# Altium schematic symbol library mySchlib.SchLib: 63 symbols
Pins are listed as number, name and electrical type; pins without a type are passive.

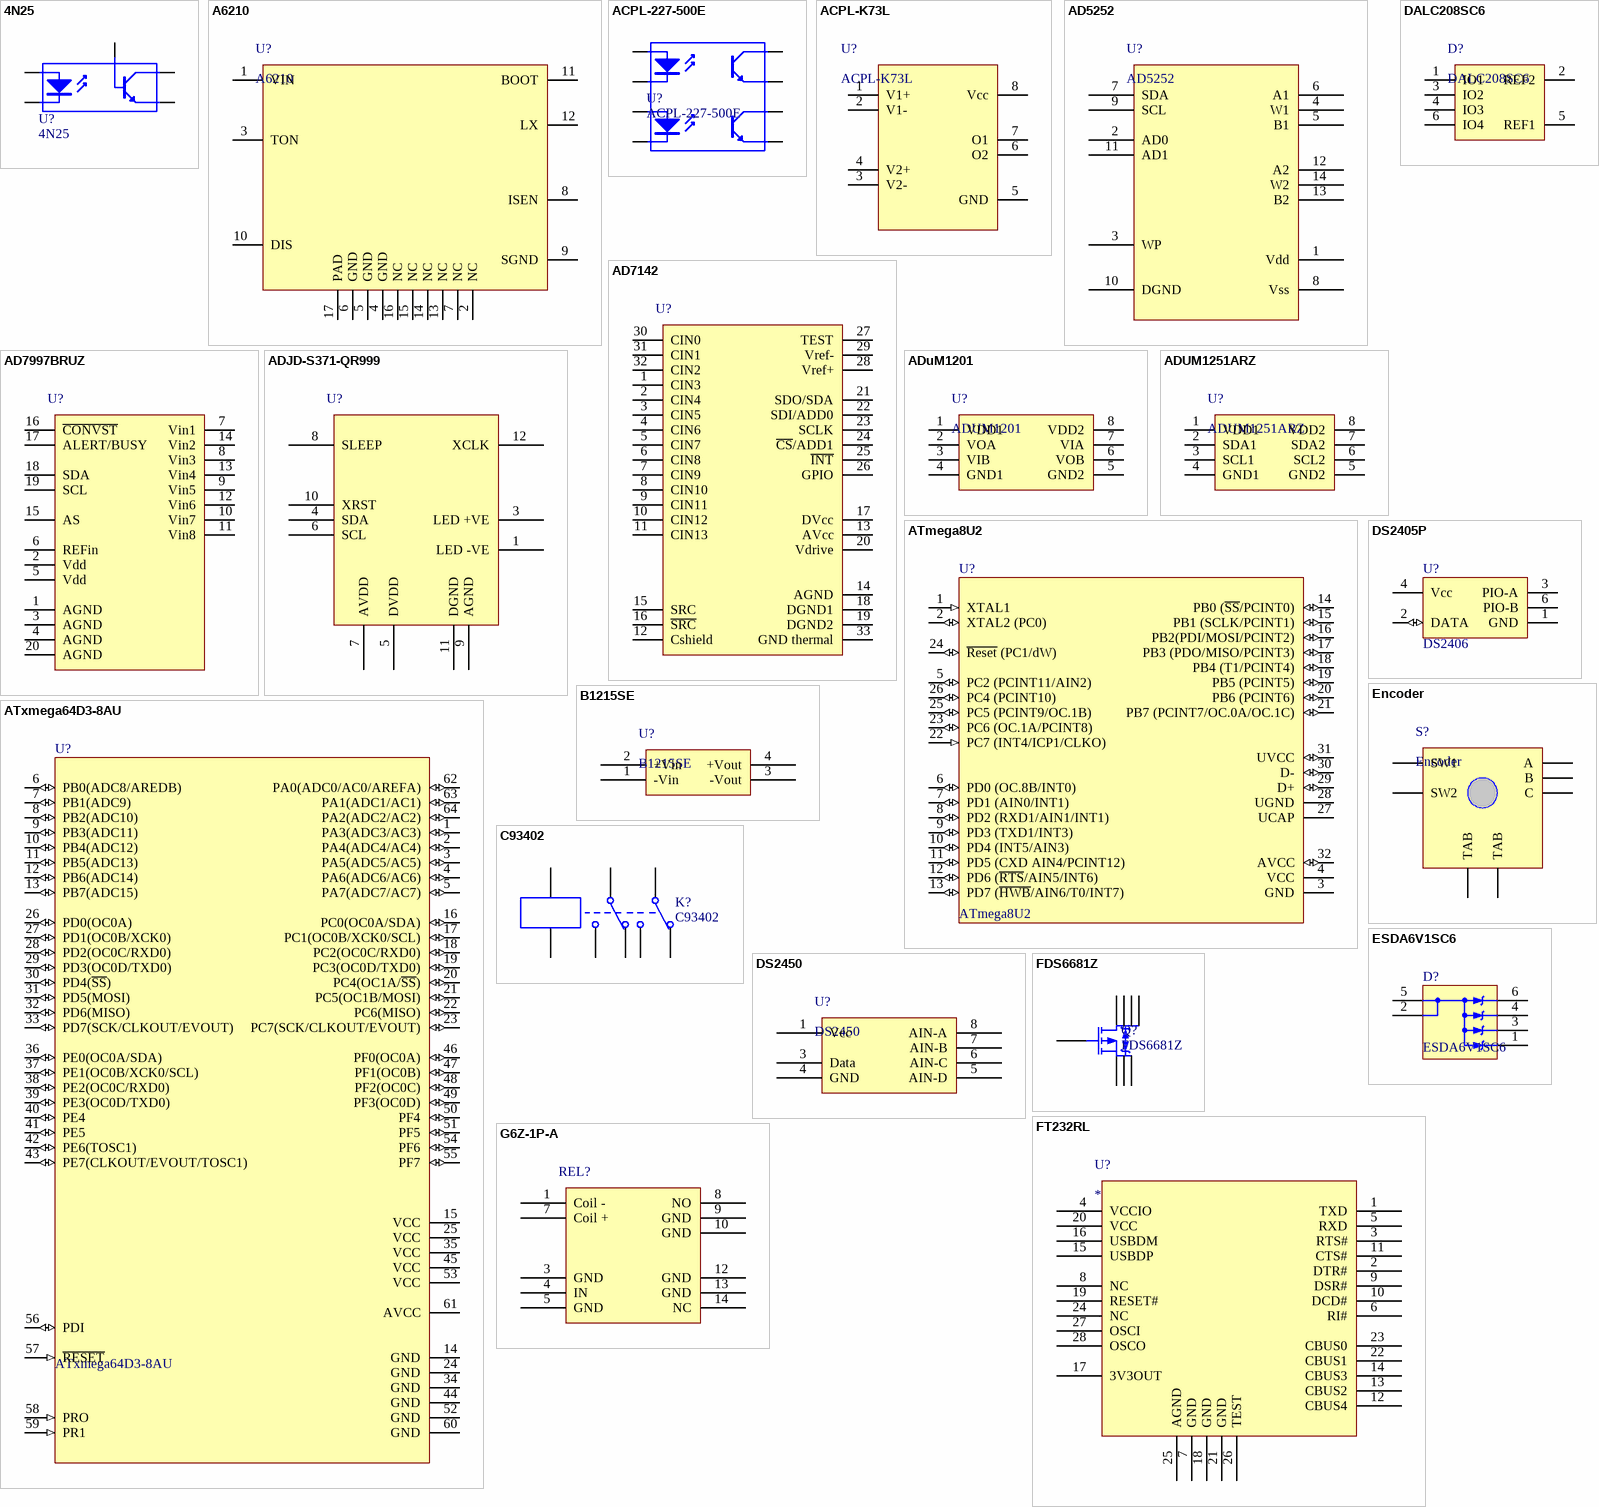
[diagram p0: symbols 4N25 to G6Z-1P-A]

## 4N25
designator U?
5 Pin Mini Flat Pack Optocoupler; Published: 24-Mar-1999; LatestRevisionDate: 04-Mar-2005; LatestRevisionNote: PCB Footprint replaced, Sch pins re-numbered.; DatasheetDocument: Apr-2004; PackageReference: SOP5(6); Publisher: Altium Limited
simulation model OPTOISO (Spice Subcircuit)
footprint SOP6 - SMD
pins: 1 A "Anode", 2 K "Cathode", 4 E "Emitter", 5 C "Collector", 6 B "Base"

## A6210
designator U?
3 A, 2 MHz Buck-Regulating LED Driver
footprint QFN65P400X400-16W2N (QFN, 16-Leads, Body 4x4 mm, Pitch 0.65mm, IPC Medium Density)
pins: 1 VIN, 2 NC, 3 TON, 4 GND, 5 GND, 6 GND, 7 NC, 8 ISEN, 9 SGND, 10 DIS, 11 BOOT, 12 LX, 13 NC, 14 NC, 15 NC, 16 NC, 17 PAD

## ACPL-227-500E
designator U?
Optocoupler; Published: 24-Mar-1999; LatestRevisionDate: 04-Mar-2005; LatestRevisionNote: PCB Footprint replaced, Sch pins re-numbered.; DatasheetDocument: Apr-2004; PackageReference: SOP5(6); Publisher: Altium Limited
simulation model OPTOISO (Spice Subcircuit)
footprint SOIC8_L (Footprint not found)
pins: 1 A "Anode", 2 K "Cathode", 3 A "Anode", 4 K "Cathode", 5 E "Emitter", 6 C "Collector", 7 E "Emitter", 8 C "Collector"

## ACPL-K73L
designator U?
Optocoupler
footprint TSSOP8-opto (TSOP, 8-Leads, Body 3,1x4,5mm (max), Pitch 0,65mm, IPC Medium Density)
pins: 1 V1+, 2 V1-, 3 V2-, 4 V2+, 5 GND, 6 O2, 7 O1, 8 Vcc

## AD5252
designator U?
Digital potentiometer
footprint TSSOP14 (Shrink Small Outline; 14 Leads; Body Width 4.4 mm; Pitch 0.65 mm)
pins: 1 Vdd, 2 AD0, 3 WP, 4 W1, 5 B1, 6 A1, 7 SDA, 8 Vss, 9 SCL, 10 DGND, 11 AD1, 12 A2, 13 B2, 14 W2

## AD7142
designator U?  (value not drawn)
Programmable Controller for Capacitance Touch Sensors
footprint LFCSP-32 (QFN, 32-Leads, Body 4,8x5,0mm (max), Pitch 0,50mm, IPC Medium Density)
pins: 1 CIN3, 2 CIN4, 3 CIN5, 4 CIN6, 5 CIN7, 6 CIN8, 7 CIN9, 8 CIN10, 9 CIN11, 10 CIN12, 11 CIN13, 12 Cshield, 13 AVcc, 14 AGND, 15 SRC, 16 ~{SRC}, 17 DVcc, 18 DGND1, 19 DGND2, 20 Vdrive, 21 SDO/SDA, 22 SDI/ADD0, 23 SCLK, 24 ~{CS}/ADD1, 25 ~{INT}, 26 GPIO, 27 TEST, 28 Vref+, 29 Vref-, 30 CIN0, 31 CIN1, 32 CIN2, 33 GND thermal

## AD7997BRUZ
designator U?  (value not drawn)
footprint TSOP65P640X120-20N (TSOP, 20-Leads, Body 6,6x4,5mm (max), Pitch 0,65mm, IPC Medium Density)
pins: 1 AGND, 2 Vdd, 3 AGND, 4 AGND, 5 Vdd, 6 REFin, 7 Vin1, 8 Vin3, 9 Vin5, 10 Vin7, 11 Vin8, 12 Vin6, 13 Vin4, 14 Vin2, 15 AS, 16 ~{CONVST}, 17 ALERT/BUSY, 18 SDA, 19 SCL, 20 AGND

## ADJD-S371-QR999
designator U?  (value not drawn)
footprint ADJD-S371-QR999 (Miniature Surface-Mount RGB Digital Color Sensor Module)
pins: 1 LED -VE, 3 LED +VE, 4 SDA, 5 DVDD, 6 SCL, 7 AVDD, 8 SLEEP, 9 AGND, 10 XRST, 11 DGND, 12 XCLK

## ADuM1201
designator U?, comment ADUM1201
footprint SOIC8_L (Footprint not found)
pins: 1 VDD1, 2 VOA, 3 VIB, 4 GND1, 5 GND2, 6 VOB, 7 VIA, 8 VDD2

## ADUM1251ARZ
designator U?
ANALOG DEVICES - ADUM1251ARZ - ISOLATOR, DUAL I2C, SMD, SOIC8
footprint SOIC8_L (8-Pin Small Outline Integrated Circuit Package (SOIC8), IPC High Density)
pins: 1 VDD1, 2 SDA1, 3 SCL1, 4 GND1, 5 GND2, 6 SCL2, 7 SDA2, 8 VDD2

## ATmega8U2
designator U?
8-Bit AVR Microcontroller with 8K Bytes of In-System Programmable Flash Memory; Published: 17-Sep-2003; LatestRevisionDate: 13-Apr-2006; LatestRevisionNote: IPC-7351 Footprint Added.; DatasheetVersion: 2486H-AVR-09/02; PackageVersion: revB, Oct-2001; PackageReference: 32A; Publisher: Altium Limited; PackageDescription: 32-Pin Thin Quad Flat Pack 0.8 mm Pitch; Code_JEDEC: MS-026-ABA; ComponentLink1Description: Manufacturer Link; ComponentLink1URL: http://www.atmel.com; ComponentLink2Description: Datasheet; ComponentLink2URL: http://www.atmel.com/dyn/resources/prod_documents/doc2486.pdf
footprint 32A_N (Thin QFP, 32-Leads, Body 7x7mm, Pitch 0.8mm, IPC Medium Density)
footprint 32A_L (Thin QFP, 32-Leads, Body 7x7mm, Pitch 0.8mm, IPC High Density)
footprint 32A_M (Thin QFP, 32-Leads, Body 7x7mm, Pitch 0.8mm, IPC Low Density)
3D model ATMEGA8L-32A (32-Pin Thin Quad Flat Pack 0.8 mm Pitch)
pins: 1 XTAL1 (in), 2 XTAL2 (PC0) (io), 3 GND (power), 4 VCC (power), 5 PC2 (PCINT11/AIN2) (io), 6 PD0 (OC.8B/INT0) (io), 7 PD1 (AIN0/INT1) (io), 8 PD2 (RXD1/AIN1/INT1) (io), 9 PD3 (TXD1/INT3) (io), 10 PD4 (INT5/AIN3) (io), 11 PD5 (CXD AIN4/PCINT12) (io), 12 PD6 (~{RTS}/AIN5/INT6) (io), 13 PD7 (~{HWB}/AIN6/T0/INT7) (io), 14 PB0 (~{SS}/PCINT0) (io), 15 PB1 (SCLK/PCINT1) (io), 16 PB2(PDI/MOSI/PCINT2) (io), 17 PB3 (PDO/MISO/PCINT3) (io), 18 PB4 (T1/PCINT4) (io), 19 PB5 (PCINT5) (io), 20 PB6 (PCINT6) (io), 21 PB7 (PCINT7/OC.0A/OC.1C) (io), 22 PC7 (INT4/ICP1/CLKO) (in), 23 PC6 (OC.1A/PCINT8) (io), 24 ~{Reset} (PC1/dW) (io), 25 PC5 (PCINT9/OC.1B) (io), 26 PC4 (PCINT10) (io), 27 UCAP (power), 28 UGND (power), 29 D+ (io), 30 D- (io), 31 UVCC (io), 32 AVCC (io)

## ATxmega64D3-8AU
designator U?
8-Bit AVR Microcontroller with 64K Bytes of In-System Programmable Flash Memory; Published: 17-Sep-2003; LatestRevisionDate: 13-Apr-2006; LatestRevisionNote: IPC-7351 Footprint Added.; DatasheetVersion: 2490C-AVR-009/02; PackageVersion: revB, Oct-2001; PackageReference: 64A; Publisher: Altium Limited; PackageDescription: 64-Pin Thin Quad Flat Pack 0.8 mm Pitch; Code_JEDEC: MS-026-AEB; ComponentLink1Description: Manufacturer Link; ComponentLink1URL: http://www.atmel.com; ComponentLink2Description: Datasheet; ComponentLink2URL: http://www.atmel.com/dyn/resources/prod_documents/doc2490.pdf
footprint 64A_N (Thin QFP, 64-Leads, Body 14x14mm, Pitch 0.8mm, IPC Medium Density)
footprint 64A_L (Thin QFP, 64-Leads, Body 14x14mm, Pitch 0.8mm, IPC High Density)
footprint 64A_M (Thin QFP, 64-Leads, Body 14x14mm, Pitch 0.8mm, IPC Low Density)
3D model ATMEGA64L-64A (64-Pin Thin Quad Flat Pack 0.8 mm Pitch)
pins: 1 PA3(ADC3/AC3) (io), 2 PA4(ADC4/AC4) (io), 3 PA5(ADC5/AC5) (io), 4 PA6(ADC6/AC6) (io), 5 PA7(ADC7/AC7) (io), 6 PB0(ADC8/AREDB) (io), 7 PB1(ADC9) (io), 8 PB2(ADC10) (io), 9 PB3(ADC11) (io), 10 PB4(ADC12) (io), 11 PB5(ADC13) (io), 12 PB6(ADC14) (io), 13 PB7(ADC15) (io), 14 GND, 15 VCC, 16 PC0(OC0A/SDA) (io), 17 PC1(OC0B/XCK0/SCL) (io), 18 PC2(OC0C/RXD0) (io), 19 PC3(OC0D/TXD0) (io), 20 PC4(OC1A/~{SS}) (io), 21 PC5(OC1B/MOSI) (io), 22 PC6(MISO) (io), 23 PC7(SCK/CLKOUT/EVOUT) (io), 24 GND, 25 VCC, 26 PD0(OC0A) (io), 27 PD1(OC0B/XCK0) (io), 28 PD2(OC0C/RXD0) (io), 29 PD3(OC0D/TXD0) (io), 30 PD4(~{SS}) (io), 31 PD5(MOSI) (io), 32 PD6(MISO) (io), 33 PD7(SCK/CLKOUT/EVOUT) (io), 34 GND, 35 VCC, 36 PE0(OC0A/SDA) (io), 37 PE1(OC0B/XCK0/SCL) (io), 38 PE2(OC0C/RXD0) (io), 39 PE3(OC0D/TXD0) (io), 40 PE4 (io), 41 PE5 (io), 42 PE6(TOSC1) (io), 43 PE7(CLKOUT/EVOUT/TOSC1) (io), 44 GND, 45 VCC, 46 PF0(OC0A) (io), 47 PF1(OC0B) (io), 48 PF2(OC0C) (io), 49 PF3(OC0D) (io), 50 PF4 (io), 51 PF5 (io), 52 GND, 53 VCC, 54 PF6 (io), 55 PF7 (io), 56 PDI (io), 57 ~{RESET} (in), 58 PRO (in), 59 PR1 (in), 60 GND, 61 AVCC, 62 PA0(ADC0/AC0/AREFA) (io), 63 PA1(ADC1/AC1) (io), 64 PA2(ADC2/AC2) (io)

## B1215SE
designator U?
DC/DC CONVERTER, 0.2W 12V
footprint DC/DC Converter (CONVERTER, DC/DC)
pins: 1 -Vin, 2 +Vin, 3 -Vout, 4 +Vout

## C93402
designator K?
Published: 24-Mar-1999; LatestRevisionDate: 17-Jul-2002; LatestRevisionNote: Re-released for DXP Platform.; PackageReference: DIP-P8; Publisher: Altium Limited
simulation model DPDTRELAY (Spice Subcircuit)
footprint C93402
pins: 1, 4, 6, 8, 9, 11, 13, 16

## DALC208SC6
designator D?
STMICROELECTRONICS - DALC208SC6 - DIODE ARRAY, TVS, 9V, SMD, SOT23-6L
footprint SOT23-6 (SOT-457/SC-74; 6 Leads; Body 3 x 3 mm, inc. leads (LxW max))
pins: 1 IO1, 2 REF2, 3 IO2, 4 IO3, 5 REF1, 6 IO4

## DS2405P
designator U?, comment DS2406
Addressable Switch; Note: Pin numbers 4-6 are Not Connected (NC); Published: 13-Oct-2000; LatestRevisionDate: 17-Jul-2002; LatestRevisionNote: Re-released for DXP Platform.; DatasheetVersion: 22-Oct-1999; PackageVersion: 1999; PackageReference: TSOC6; Publisher: Altium Limited; PackageDescription: Small Outline; 6 C-Bend Leads; Body Width 3.8 mm; Pitch 1.27 mm; ComponentLink1Description: Manufacturer Link; ComponentLink1URL: http://www.maxim-ic.com/; ComponentLink2Description: Datasheet; ComponentLink2URL: http://pdfserv.maxim-ic.com/en/ds/DS2405.pdf
footprint TSOC6 (Small Outline; 6 C-Bend Leads; Body Width 3.8 mm; Pitch 1.27 mm)
pins: 1 GND (power), 2 DATA (io), 3 PIO-A (oc), 4 Vcc, 6 PIO-B

## DS2450
designator U?
footprint SOIC8_L (Footprint not found)
pins: 1 Vcc, 3 Data, 4 GND, 5 AIN-D, 6 AIN-C, 7 AIN-B, 8 AIN-A

## Encoder
designator S?
footprint Encoder
pins: 1 A, 2 C, 3 B, 4 SW1, 5 SW2, 6 TAB, 7 TAB

## ESDA6V1SC6
designator D?
DIODE ARRAY, TVS, QUAD, 6.1VBD; Manufacturer: STMICROELECTRONICS; Manufacturer PN: ESDA6V1SC6; Farnell PN: 9802274
footprint SOT23-6 (SOT-457/SC-74; 6 Leads; Body 3 x 3 mm, inc. leads (LxW max))
pins: 1, 2, 3, 4, 5, 6

## FDS6681Z
designator Q?
FAIRCHILD SEMICONDUCTOR - FDS6681Z - MOSFET, P; Published: 8-Jun-2000; LatestRevisionDate: 17-Jul-2002; LatestRevisionNote: Re-released for DXP Platform.; PackageVersion: 1995/1996; PackageReference: E3; Publisher: Altium Limited
footprint SOIC127P600-8AL (SOIC, 8-Leads, Body 4.9x3.9mm, Pitch 1.27mm, IPC High Density)
simulation model PMOS (MOSFET-P)
pins: 1 S, 2 S, 3 S, 4 G, 5 D, 6 D, 7 D, 8 D

## FT232RL
designator U?
USB-UART bridge
footprint SSOP28 (SSOP, Plastic; 28 Leads; Body Width 5.3 mm; Pitch 0.65 mm)
pins: 1 TXD, 2 DTR#, 3 RTS#, 4 VCCIO, 5 RXD, 6 RI#, 7 GND, 8 NC, 9 DSR#, 10 DCD#, 11 CTS#, 12 CBUS4, 13 CBUS2, 14 CBUS3, 15 USBDP, 16 USBDM, 17 3V3OUT, 18 GND, 19 RESET#, 20 VCC, 21 GND, 22 CBUS1, 23 CBUS0, 24 NC, 25 AGND, 26 TEST, 27 OSCI, 28 OSCO

## G6Z-1P-A
designator REL?  (value not drawn)
Relay
footprint G6Z-1P-A (relay)
pins: 1 Coil -, 3 GND, 4 IN, 5 GND, 7 Coil +, 8 NO, 9 GND, 10 GND, 12 GND, 13 GND, 14 NC

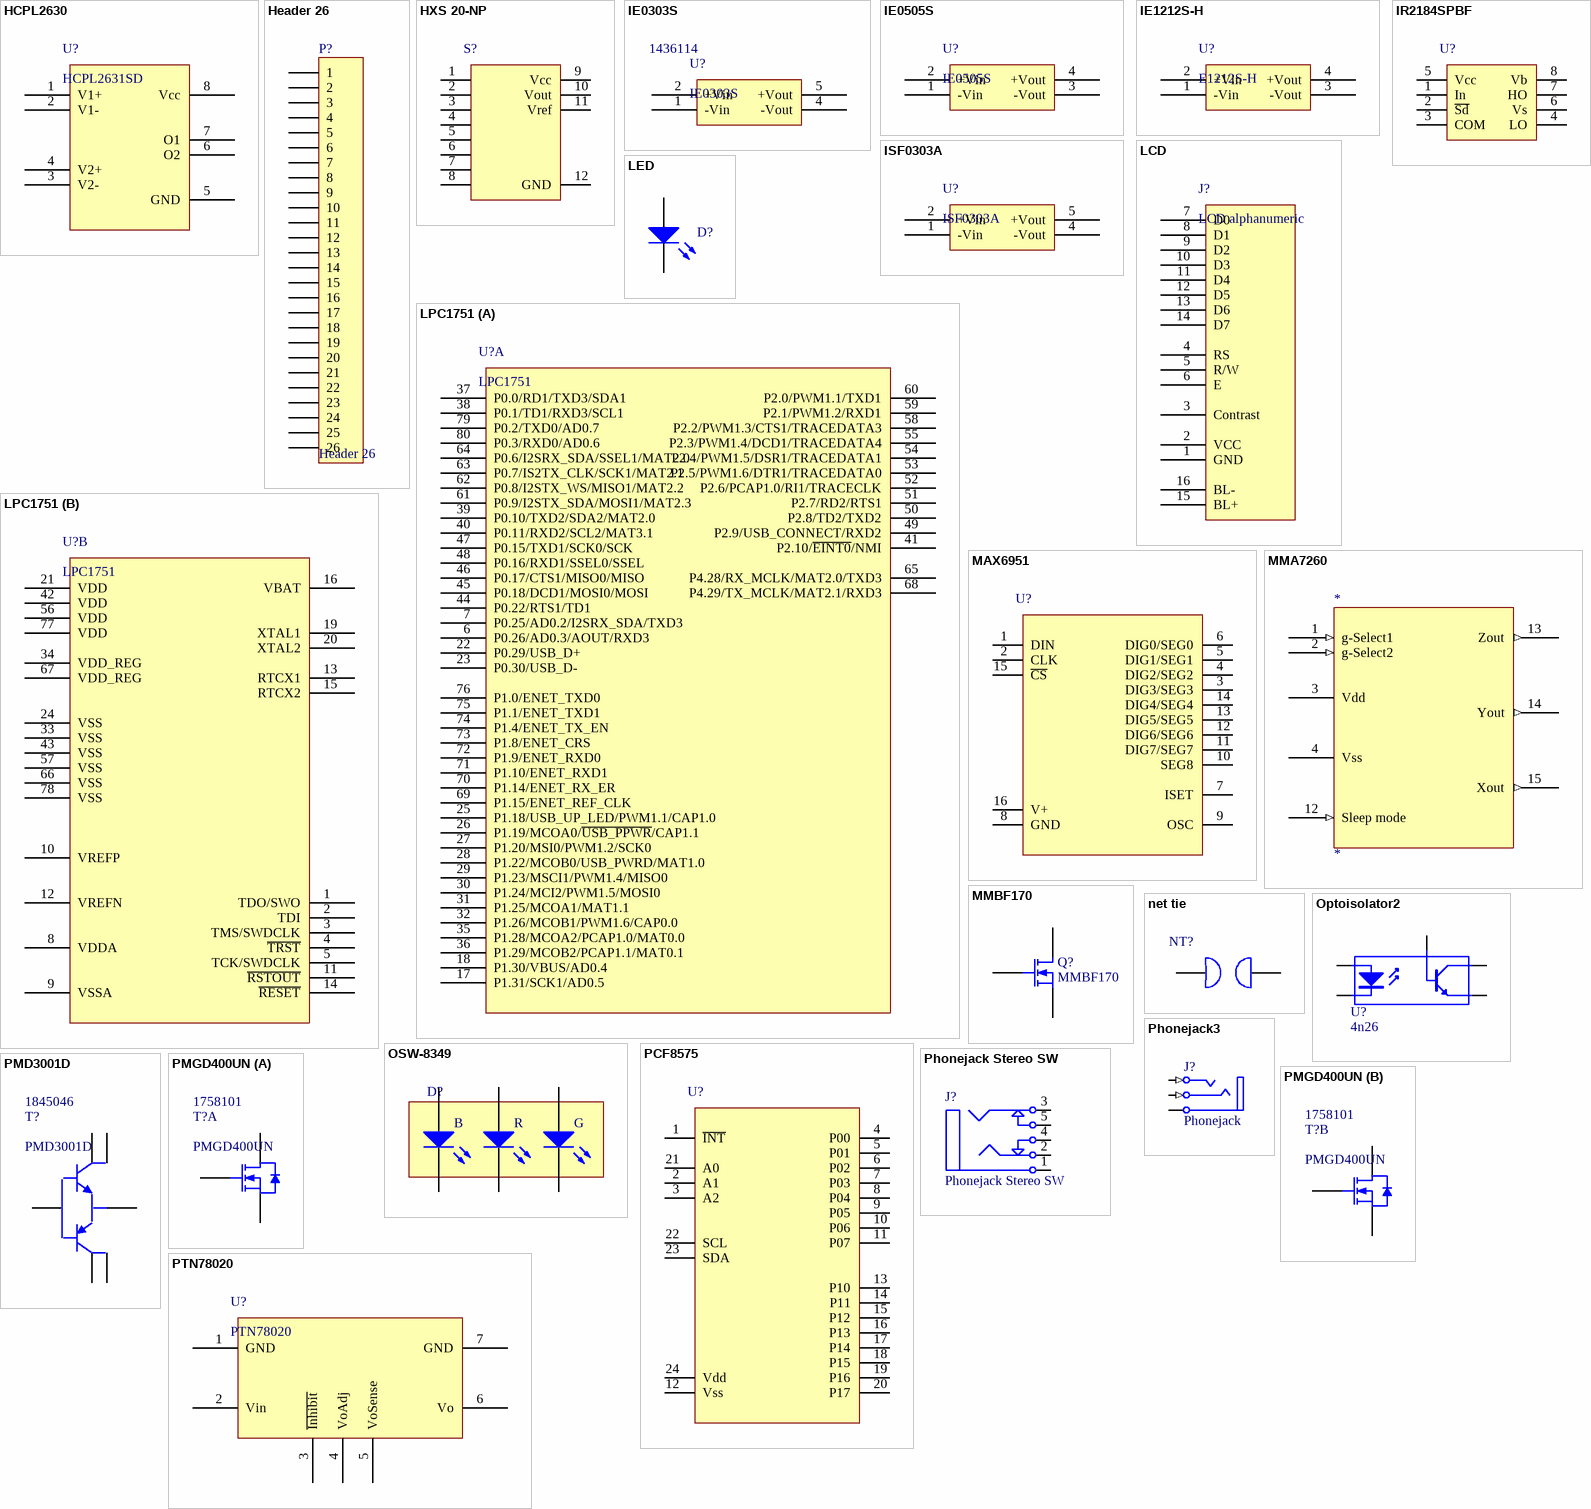
[diagram p1: symbols HCPL2630 to PTN78020]

## HCPL2630
designator U?, comment HCPL2631SD
FAIRCHILD SEMICONDUCTOR LTD - HCPL2631SD - OPTOCOUPLER, SMD, DUAL, LOGIC
footprint DIP8 - smd
pins: 1 V1+, 2 V1-, 3 V2-, 4 V2+, 5 GND, 6 O2, 7 O1, 8 Vcc

## Header 26
designator P?
Header, 26-Pin; LatestRevisionDate: 17-Jul-2002; LatestRevisionNote: Re-released for DXP Platform.; Publisher: Altium Limited
signal-integrity model Connector
footprint FCC26 Connector
pins: 1, 2, 3, 4, 5, 6, 7, 8, 9, 10, 11, 12, 13, 14, 15, 16, 17, 18, 19, 20, 21, 22, 23, 24, 25, 26

## HXS 20-NP
designator S?  (value not drawn)
LEM - HXS 20-NP/SP30 - CURRENT TRANSDUCER
footprint HXS 20-NP/SP30
pins: 1, 2, 3, 4, 5, 6, 7, 8, 9 Vcc, 10 Vout, 11 Vref, 12 GND

## IE0303S
designator U?  Supplier Part Number 1: 1436114
CONVERTER, DC/DC, 1W, 3.3V; Supplier 1: Farnell
footprint xp-DC-DC-B1
pins: 1 -Vin, 2 +Vin, 4 -Vout, 5 +Vout

## IE0505S
designator U?
DC/DC CONVERTER, 1W, 5V
footprint DC/DC Converter (CONVERTER, DC/DC)
pins: 1 -Vin, 2 +Vin, 3 -Vout, 4 +Vout

## IE1212S-H
designator U?, comment E1212S-H
XP POWER - IE1212S-H - CONVERTER, DC/DC, 1W, 12V
footprint DC/DC Converter (IE1212S-H - CONVERTER, DC/DC, 1W, 12V)
pins: 1 -Vin, 2 +Vin, 3 -Vout, 4 +Vout

## IR2184SPBF
designator U?  (value not drawn)
Half-Bridge Driver
footprint SOIC127P600-8L (Footprint not found)
pins: 1 In, 2 ~{Sd}, 3 COM, 4 LO, 5 Vcc, 6 Vs, 7 HO, 8 Vb

## ISF0303A
designator U?
XP POWER - ISF0303A - CONVERTER DC/DC, SMD PACKAGE, 1W 3.3V
footprint xp-DC-DC-B1
pins: 1 -Vin, 2 +Vin, 4 -Vout, 5 +Vout

## LCD
designator J?, comment LCD alphanumeric
footprint LCD alphanumeric 16X2A
footprint LCD alphanumeric 16X2A 1
pins: 1 GND, 2 VCC, 3 Contrast, 4 RS, 5 R/W, 6 E, 7 D0, 8 D1, 9 D2, 10 D3, 11 D4, 12 D5, 13 D6, 14 D7, 15 BL+, 16 BL-

## LED
designator D?
LED Tube SMD; Published: 8-Jun-2000; LatestRevisionDate: 17-Jul-2002; LatestRevisionNote: Re-released for DXP Platform.; PackageDocument: Feb-2002; PackageReference: 3.2X1.6X1.1; Publisher: Altium Limited
footprint 0603-LED-TUBE (0603 Tube LED)
pins: 1 A, 2 K

## LPC1751
designator U?
footprint LQFP80_N (Footprint not found)
part A pins: 6 P0.26/AD0.3/AOUT/RXD3, 7 P0.25/AD0.2/I2SRX_SDA/TXD3, 17 P1.31/SCK1/AD0.5, 18 P1.30/VBUS/AD0.4, 22 P0.29/USB_D+, 23 P0.30/USB_D-, 25 P1.18/USB_UP_LED/PWM1.1/CAP1.0, 26 P1.19/MCOA0/~{USB_PPWR}/CAP1.1, 27 P1.20/MSI0/PWM1.2/SCK0, 28 P1.22/MCOB0/USB_PWRD/MAT1.0, 29 P1.23/MSCI1/PWM1.4/MISO0, 30 P1.24/MCI2/PWM1.5/MOSI0, 31 P1.25/MCOA1/MAT1.1, 32 P1.26/MCOB1/PWM1.6/CAP0.0, 35 P1.28/MCOA2/PCAP1.0/MAT0.0, 36 P1.29/MCOB2/PCAP1.1/MAT0.1, 37 P0.0/RD1/TXD3/SDA1, 38 P0.1/TD1/RXD3/SCL1, 39 P0.10/TXD2/SDA2/MAT2.0, 40 P0.11/RXD2/SCL2/MAT3.1, 41 P2.10/~{EINT0}/NMI, 44 P0.22/RTS1/TD1, 45 P0.18/DCD1/MOSI0/MOSI, 46 P0.17/CTS1/MISO0/MISO, 47 P0.15/TXD1/SCK0/SCK, 48 P0.16/RXD1/SSEL0/SSEL, 49 P2.9/USB_CONNECT/RXD2, 50 P2.8/TD2/TXD2, 51 P2.7/RD2/RTS1, 52 P2.6/PCAP1.0/RI1/TRACECLK, 53 P2.5/PWM1.6/DTR1/TRACEDATA0, 54 P2.4/PWM1.5/DSR1/TRACEDATA1, 55 P2.3/PWM1.4/DCD1/TRACEDATA4, 58 P2.2/PWM1.3/CTS1/TRACEDATA3, 59 P2.1/PWM1.2/RXD1, 60 P2.0/PWM1.1/TXD1, 61 P0.9/I2STX_SDA/MOSI1/MAT2.3, 62 P0.8/I2STX_WS/MISO1/MAT2.2, 63 P0.7/IS2TX_CLK/SCK1/MAT2.1, 64 P0.6/I2SRX_SDA/SSEL1/MAT2.0, 65 P4.28/RX_MCLK/MAT2.0/TXD3, 68 P4.29/TX_MCLK/MAT2.1/RXD3, 69 P1.15/ENET_REF_CLK, 70 P1.14/ENET_RX_ER, 71 P1.10/ENET_RXD1, 72 P1.9/ENET_RXD0, 73 P1.8/ENET_CRS, 74 P1.4/ENET_TX_EN, 75 P1.1/ENET_TXD1, 76 P1.0/ENET_TXD0, 79 P0.2/TXD0/AD0.7, 80 P0.3/RXD0/AD0.6
part B pins: 1 TDO/SWO, 2 TDI, 3 TMS/SWDCLK, 4 ~{TRST}, 5 TCK/SWDCLK, 8 VDDA, 9 VSSA, 10 VREFP, 11 ~{RSTOUT}, 12 VREFN, 13 RTCX1, 14 ~{RESET}, 15 RTCX2, 16 VBAT, 19 XTAL1, 20 XTAL2, 21 VDD, 24 VSS, 33 VSS, 34 VDD_REG, 42 VDD, 43 VSS, 56 VDD, 57 VSS, 66 VSS, 67 VDD_REG, 77 VDD, 78 VSS

## MAX6951
designator U?  (value not drawn)
Serially Interfaced, +2.7V to +5.5V, 5- and 8-Digit LED Display Drivers
footprint QSOP16 (SSOP; 16 Leads; Body Width 3.9 mm; Pitch 0.635 mm)
pins: 1 DIN, 2 CLK, 3 DIG3/SEG3, 4 DIG2/SEG2, 5 DIG1/SEG1, 6 DIG0/SEG0, 7 ISET, 8 GND, 9 OSC, 10 SEG8, 11 DIG7/SEG7, 12 DIG6/SEG6, 13 DIG5/SEG5, 14 DIG4/SEG4, 15 ~{CS}, 16 V+

## MMA7260
designator *
footprint MMA7260
pins: 1 g-Select1 (in), 2 g-Select2 (in), 3 Vdd, 4 Vss, 12 Sleep mode (in), 13 Zout (out), 14 Yout (out), 15 Xout (out)

## MMBF170
designator Q?
PackageDocument: 1995/1996; Published: 8-Jun-2000; LatestRevisionDate: 17-Jul-2002; LatestRevisionNote: Re-released for DXP Platform.; PackageReference: E3; Publisher: Altium Limited
footprint MMBF170
simulation model NMOS (MOSFET-N)
pins: 1 D, 2 G, 3 S

## net tie
designator NT?  (net tie, no BOM)
net tie
footprint Tie
pins: 1, 2

## Optoisolator2
designator U?, comment 4n26
5 Pin Mini Flat Pack Optocoupler; Published: 24-Mar-1999; LatestRevisionDate: 04-Mar-2005; LatestRevisionNote: PCB Footprint replaced, Sch pins re-numbered.; DatasheetDocument: Apr-2004; PackageReference: SOP5(6); Publisher: Altium Limited
footprint DIP6
simulation model OPTOISO (Spice Subcircuit)
pins: 1 A "Anode", 2 K "Cathode", 4 E "Emitter", 5 C "Collector", 6 B "Base"

## OSW-8349
designator D?
LED 3W RND HI POWER SMD RGB; Published: 8-Jun-2000; LatestRevisionDate: 17-Jul-2002; LatestRevisionNote: Re-released for DXP Platform.; PackageDocument: Feb-2002; PackageReference: 3.2X1.6X1.1; Publisher: Altium Limited
footprint OSW-8349 (Led OSW-8349 3W)
pins: 1 A, 2 A, 3 A, 4 K, 5 K, 6 K
text: B; R; G

## PCF8575
designator U?  (value not drawn)
Remote 16-bit I/O expander for I2C bus
footprint TSSOP24 (Shrink Small Outline; 24 Leads; Body Width 4.4 mm; Pitch 0.65 mm)
pins: 1 ~{INT}, 2 A1, 3 A2, 4 P00, 5 P01, 6 P02, 7 P03, 8 P04, 9 P05, 10 P06, 11 P07, 12 Vss, 13 P10, 14 P11, 15 P12, 16 P13, 17 P14, 18 P15, 19 P16, 20 P17, 21 A0, 22 SCL, 23 SDA, 24 Vdd

## Phonejack3
designator J?, comment Phonejack
3.5MM jack lumberg 1503 02; PackageDocument: 2003; PCB_Layout: Complies with manufacturer's recommendation.; DrillAndSlotSize: Corresponds to nominal value.; Published: 15-Jul-2004; LatestRevisionDate: 15-Jul-2004; LatestRevisionNote: Component Replaced.; DatasheetDocument: 2003; PackageReference: S1VS_SSS; Publisher: Altium Limited; ComponentLink1Description: Manufacturer Link; ComponentLink1URL: http://www.cliffuk.co.uk/
footprint 3.5MM jack SMD
footprint 3.5MM jack SMD 1
pins: 1 S (power) "Sleeve (Ground)", 2 T (in) "Tip/Left Channel/(+)", 3 R (in) "Ring/Right Channel/(-)"

## Phonejack Stereo SW
designator J?
31503 09 - SOCKET, 3.5MM JACK, R/A, STEREO; Published: 5-Jan-2004; LatestRevisionDate: 17-Dec-2003; LatestRevisionNote: PCB Footprint replaced.; DatasheetDocument: 07-Mar-2000; Publisher: Altium Limited; ComponentLink1Description: Manufacturer Link; ComponentLink1URL: http://domino.kycon.com/internet/Products.html
footprint Phonejack
signal-integrity model Connector
pins: 1, 2, 3, 4, 5

## PMD3001D
designator T?  Supplier Part Number 1: 1845046
Supplier 1: Farnell
footprint SOT457 (SOT-457/SC-74; 6 Leads; Body 3.1 x 3 mm, inc. leads (LxW max))
pins: 1 B, 2 C2, 3 C3, 4 E, 5 C1, 6 C1

## PMGD400UN
designator T?  Supplier Part Number 1: 1758101
Supplier 1: Farnell
footprint SOT363 (SOT-363/SC-88; 6 Leads; Body 2.2 x 2.2 mm, inc. leads (LxW max))
part A pins: 1 S1, 2 G1, 6 D1
part B pins: 3 D2, 4 S2, 5 G2

## PTN78020
designator U?
footprint PTN78020
pins: 1 GND, 2 Vin, 3 ~{Inhibit}, 4 VoAdj, 5 VoSense, 6 Vo, 7 GND

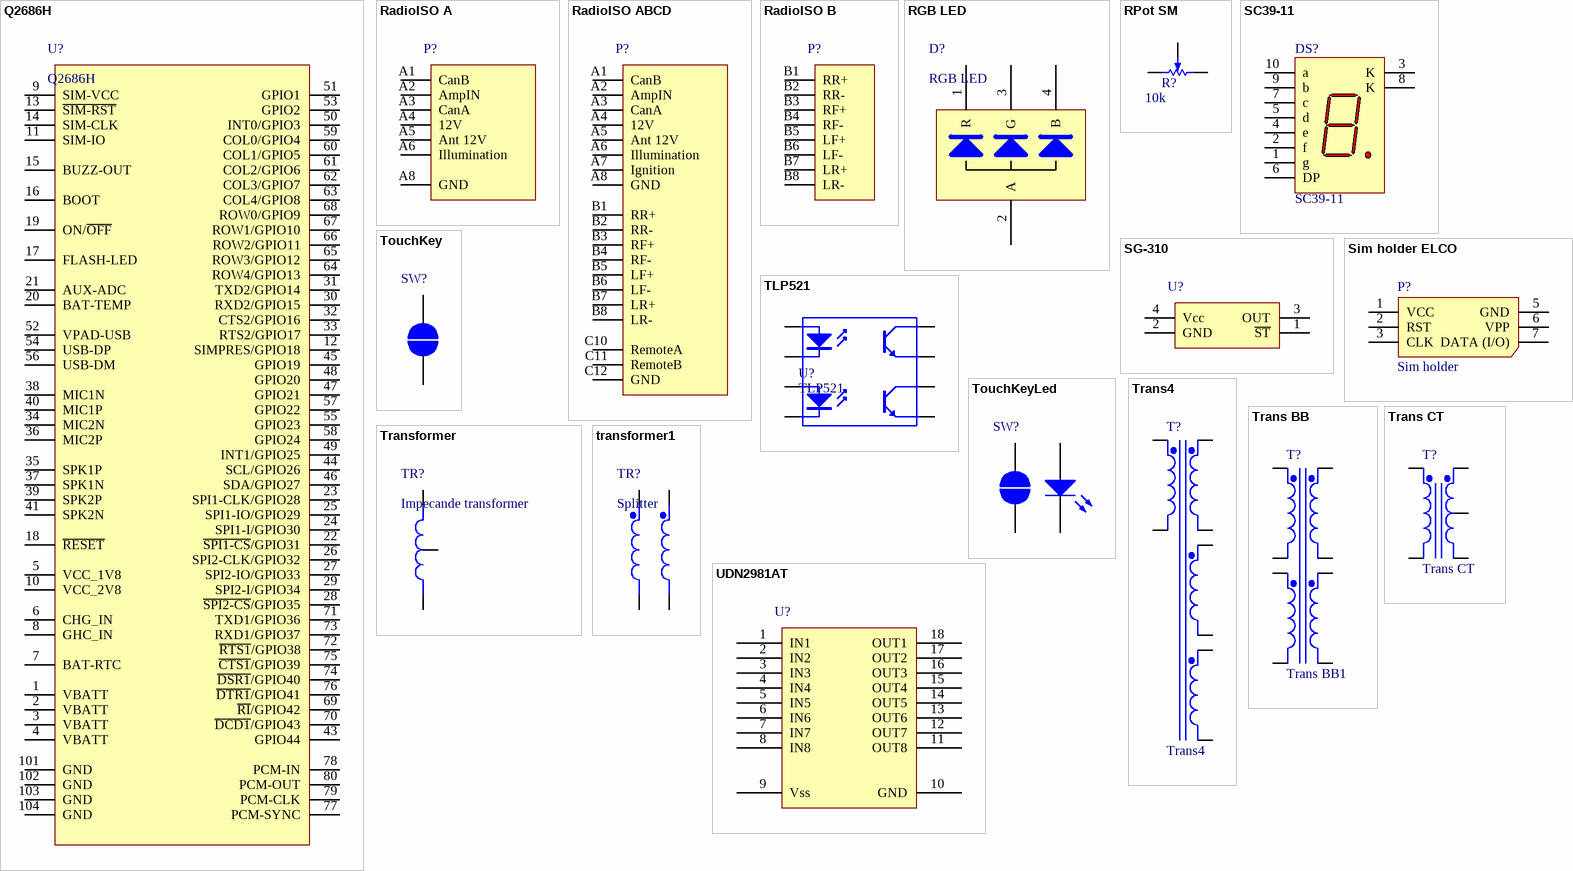
[diagram p2: symbols Q2686H to UDN2981AT]

## Q2686H
designator U?
WAVECOM - Q2686H - MODULE, GSM/GPRS, QUAD BAND
pins: 1 VBATT, 2 VBATT, 3 VBATT, 4 VBATT, 5 VCC_1V8, 6 CHG_IN, 7 BAT-RTC, 8 GHC_IN, 9 SIM-VCC, 10 VCC_2V8, 11 SIM-IO, 12 SIMPRES/GPIO18, 13 ~{SIM-RST}, 14 SIM-CLK, 15 BUZZ-OUT, 16 BOOT, 17 FLASH-LED, 18 ~{RESET}, 19 ON/~{OFF}, 20 BAT-TEMP, 21 AUX-ADC, 22 ~{SPI1-CS}/GPIO31, 23 SPI1-CLK/GPIO28, 24 SPI1-I/GPIO30, 25 SPI1-IO/GPIO29, 26 SPI2-CLK/GPIO32, 27 SPI2-IO/GPIO33, 28 ~{SPI2-CS}/GPIO35, 29 SPI2-I/GPIO34, 30 RXD2/GPIO15, 31 TXD2/GPIO14, 32 CTS2/GPIO16, 33 RTS2/GPIO17, 34 MIC2N, 35 SPK1P, 36 MIC2P, 37 SPK1N, 38 MIC1N, 39 SPK2P, 40 MIC1P, 41 SPK2N, 43 GPIO44, 44 SCL/GPIO26, 45 GPIO19, 46 SDA/GPIO27, 47 GPIO21, 48 GPIO20, 49 INT1/GPIO25, 50 INT0/GPIO3, 51 GPIO1, 52 VPAD-USB, 53 GPIO2, 54 USB-DP, 55 GPIO23, 56 USB-DM, 57 GPIO22, 58 GPIO24, 59 COL0/GPIO4, 60 COL1/GPIO5, 61 COL2/GPIO6, 62 COL3/GPIO7, 63 COL4/GPIO8, 64 ROW4/GPIO13, 65 ROW3/GPIO12, 66 ROW2/GPIO11, 67 ROW1/GPIO10, 68 ROW0/GPIO9, 69 ~{RI}/GPIO42, 70 ~{DCD1}/GPIO43, 71 TXD1/GPIO36, 72 ~{RTS1}/GPIO38, 73 RXD1/GPIO37, 74 ~{DSR1}/GPIO40, 75 ~{CTS1}/GPIO39, 76 ~{DTR1}/GPIO41, 77 PCM-SYNC, 78 PCM-IN, 79 PCM-CLK, 80 PCM-OUT, 101 GND, 102 GND, 103 GND, 104 GND

## RadioISO A
designator P?  (value not drawn)
footprint RadioISO-A (Radio ISO A SMD)
pins: A1 CanB, A2 AmpIN, A3 CanA, A4 12V, A5 Ant 12V, A6 Illumination, A8 GND

## RadioISO ABCD
designator P?  (value not drawn)
footprint RadioISOABCD (Radio ISO connector ABCD)
pins: A1 CanB, A2 AmpIN, A3 CanA, A4 12V, A5 Ant 12V, A6 Illumination, A7 Ignition, A8 GND, B1 RR+, B2 RR-, B3 RF+, B4 RF-, B5 LF+, B6 LF-, B7 LR+, B8 LR-, C10 RemoteA, C11 RemoteB, C12 GND

## RadioISO B
designator P?  (value not drawn)
footprint RadioISO-B (Radio ISO B SMD)
pins: B1 RR+, B2 RR-, B3 RF+, B4 RF-, B5 LF+, B6 LF-, B7 LR+, B8 LR-

## RGB LED
designator D?
pins: 1 R, 2 A, 3 G, 4 B

## RPot SM
designator R?  value 10k
Square Trimming Potentiometer SMD; Published: 17-Dec-2003; DatasheetDocument: Oct-2003; PackageReference: POT4MM-2; Publisher: Altium Limited; ComponentLink1Description: Manufacturer Link; ComponentLink1URL: http://bourns.com/2/search.html
footprint POT4MM-2 (Square Trimming Potentiometer)
footprint Potentiometer
pins: CCW -, CW +, W
1 alternate drawing of the same symbol

## SC39-11
designator DS?
7.62 mm Black Surface HER 7-Segment Display: CC, RH DP; MinimumIntensity: 360 ucd; Note: IF = 5 mA; Colour: High Efficiency Red (HER); Note: Pins 1 and 6 are redundant Cathodes.; Published: 8-Jun-2000; LatestRevisionDate: 17-Dec-2003; LatestRevisionNote: Schematic revised, PCB Footprint replaced.; DatasheetVersion: 19-Feb-2002; PackageVersion: 19-Feb-2002; PackageReference: LEDDIP-10; Publisher: Altium Limited; ComponentLink1Description: Manufacturer Link; ComponentLink1URL: http://www.agilent.com/
footprint LEDDIP-10/C5.08RHD (LED, 7-Segment Display, 7.62 mm, RHD; 10 Leads; Row Space 5.08 mm; Pitch 2.54 mm)
simulation model HDSP_A213 (SUBCKT)
pins: 1 g "Anode", 2 f "Anode", 3 K "Cathode", 4 e "Anode", 5 d "Anode", 6 DP "Anode", 7 c "Anode", 8 K "Cathode", 9 b "Anode", 10 a "Anode"

## SG-310
designator U?  (value not drawn)
EPSON TOYOCOM - SG-310 SCF OSCILLATOR
footprint SG-310
pins: 1 ~{ST}, 2 GND, 3 OUT, 4 Vcc

## Sim holder ELCO
designator P?, comment Sim holder
ELCO 9162006206175; Manufacturer: ELCO; Manufacturer PN: 9162006206175; Farnell PN: 9728473
footprint sim holder mali
pins: 1 VCC, 2 RST, 3 CLK, 5 GND, 6 VPP, 7 DATA (I/O)

## TLP521
designator U?
5 Pin Mini Flat Pack Optocoupler; Published: 24-Mar-1999; LatestRevisionDate: 04-Mar-2005; LatestRevisionNote: PCB Footprint replaced, Sch pins re-numbered.; DatasheetDocument: Apr-2004; PackageReference: SOP5(6); Publisher: Altium Limited
simulation model OPTOISO (Spice Subcircuit)
footprint TSSOP8 (TSOP, 8-Leads, Body 3,1x4,5mm (max), Pitch 0,65mm, IPC Medium Density)
pins: 1 A "Anode", 2 K "Cathode", 3 A "Anode", 4 K "Cathode", 5 E "Emitter", 6 C "Collector", 7 E "Emitter", 8 C "Collector"

## TouchKey
designator SW?  (value not drawn)
footprint TouchKeyLed (TouchKey with LED)
pins: 1, 2

## TouchKeyLed
designator SW?, comment TouchKey  (value not drawn)
TouchKey with Led
footprint TouchKeyLed (TouchKey with LED)
pins: 1, 2, 3 A, 4 K

## Trans4
designator T?
PETEZE EI 48/16,8-ZA 330389; Sim Note: Enter the turns ratios, Core loss resistance, Magnetising Reactance, Leakage Reactances and Resistances referred to the primary side into the parameter fields.; Published: 25-Jan-2001; LatestRevisionDate: 17-Jul-2002; LatestRevisionNote: Re-released for DXP Platform.; PackageReference: TRF_8; Publisher: Altium Limited
footprint EI48/16,8-ZA
simulation model NI4WTRANS (Spice Subcircuit)
pins: 1 Pri+, 6 Pri-, 7 Sec1+, 8 Sec1-, 9 Sec2+, 10 Sec2-, 11 Sec3+, 12 Sec3-

## Trans BB
designator T?, comment Trans BB1
Buck-boost Transformer (Ideal); Published: 25-Jan-2001; LatestRevisionDate: 17-Jul-2002; LatestRevisionNote: Re-released for DXP Platform.; PackageReference: TRF_8; Publisher: Altium Limited
footprint UI30/10,5-ZA
simulation model IDEAL4W (Spice Subcircuit)
pins: 1 Pri1+, 3 Pri1-, 5 Pri2+, 7 Pri2-, 10 Sec2-, 12 Sec2+, 14 Sec1-, 16 Sec1+

## Trans CT
designator T?
Center-Tapped Transformer (Coupled Inductor Model); Published: 8-Jun-2000; LatestRevisionDate: 17-Jul-2002; LatestRevisionNote: Re-released for DXP Platform.; PackageReference: TRF_5; Publisher: Altium Limited
footprint trafo-5
simulation model TRANSFORMER (Transformer)
pins: 1 Pri+, 2 Pri-, 3 Sec+, 4 SecCT, 5 Sec-

## Transformer
designator TR?, comment Impecande transformer
footprint Transformer-binocular
pins: 1 Sec+, 2 SecCT, 3 Sec-

## transformer1
designator TR?, comment Splitter
footprint Transformer-binocular; pin to pad 1A>2 2>3 2A>4
pins: 1 Sec+, 1A Sec+, 2 Sec+, 2A Sec+

## UDN2981AT
designator U?, comment 8-ch driver  (value not drawn)
footprint DIP-18 (Footprint not found)
pins: 1 IN1, 2 IN2, 3 IN3, 4 IN4, 5 IN5, 6 IN6, 7 IN7, 8 IN8, 9 Vss, 10 GND, 11 OUT8, 12 OUT7, 13 OUT6, 14 OUT5, 15 OUT4, 16 OUT3, 17 OUT2, 18 OUT1